# EAGLE library part AIC161X (library IC)
AIC1610/AIC1611 Datasheet:http://www.enroo.com/uploaddir/download/pdf/aicpdf1/AICguige/AIC1610.pdf
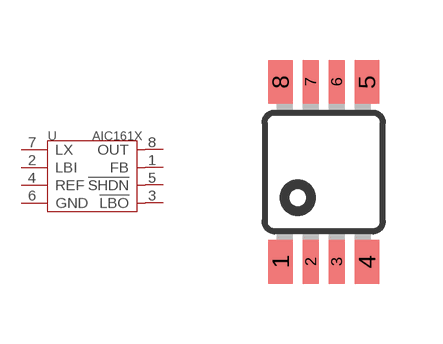
[diagram p9: symbol with the pads of MSOP8; footprint MSOP8]

Designator prefix U

## AIC161X-MSOP8  [MSOP8]
1  FB
2  LBI
3  !LBO
4  REF
5  !SHDN
6  GND
7  LX
8  OUT

## Footprint MSOP8 (pad centres in mm)
8M, 8-Lead, 0.118" Wide, Miniature Small Outline Package MSOP 8M-Package doc1097.pdf
smd 0.61 x 1.1: 1 -1.08,-2.25; 4 1.08,-2.25; 5 1.08,2.25; 8 -1.08,2.25
smd 0.4 x 1.1: 2 -0.325,-2.25; 3 0.325,-2.25; 6 0.325,2.25; 7 -0.325,2.25